# Altium footprint library Pattern No3d 20090609.PcbLib: 323 footprints (part 21 of 22)
Each footprint in its own frame and in the unit in brackets; x right, y up, seen from the top. Pads: shape width x height; smd on the part's side, far side on the other; paste and mask are expansions set on the pad; w line width, h text height; cw(c..) or ccw(c..) is an arc to the next point about the centre after c.
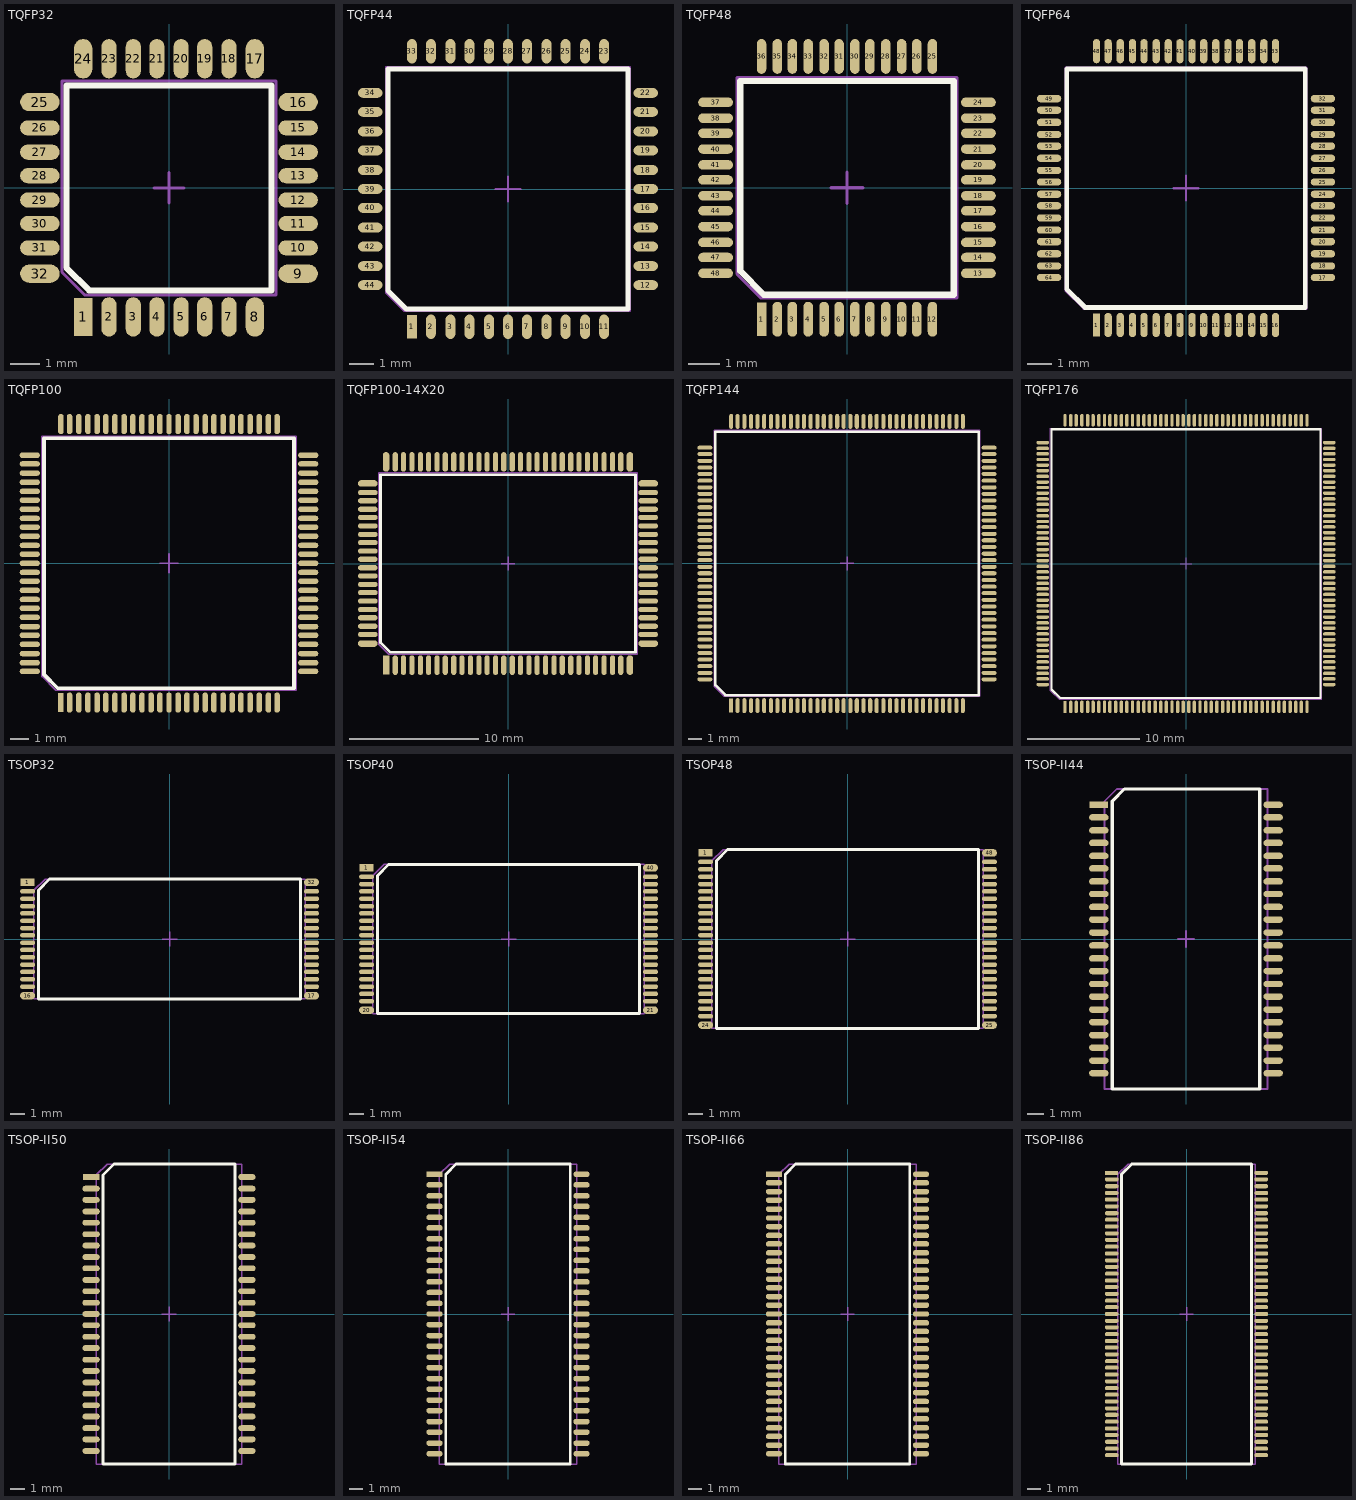
[diagram p20: the footprints below, top view; thin cyan lines are the x and y axes]

## TQFP32 [mil] "http://www.nxp.com/acrobat_download/packages/SOT358-1.pdf"
pads (32):
  rect 24x50 smd mask-1000: 1(-113,-170)
  oval 20x52 smd mask-1000: 2(-79,-170) 3(-47,-170) 4(-16,-170) 5(16,-170) 6(47,-170) 7(79,-170) 18(79,170) 19(47,170) 20(16,170) 21(-16,170) 22(-47,170) 23(-79,170)
  oval 24x52 smd mask-1000: 8(113,-170) 17(113,170) 24(-113,170)
  oval 52x24 smd mask-1000: 9(170,-113) 16(170,113) 25(-170,113) 32(-170,-113)
  oval 52x20 smd mask-1000: 10(170,-79) 11(170,-47) 12(170,-16) 13(170,16) 14(170,47) 15(170,79) 26(-170,79) 27(-170,47) 28(-170,16) 29(-170,-16) 30(-170,-47) 31(-170,-79)
Top Overlay:
  lines w8: -135,-105 -135,135 135,135 135,-135 -105,-135 -135,-105
Top Solder:
  region: -129,-141 -129,-199 -99,-199 -99,-141
  lines w24: -188,-79 -152,-79 ; -188,-47 -152,-47 ; -188,-16 -152,-16 ; -188,16 -152,16 ; -188,47 -152,47 ; -188,79 -152,79 ; -79,-188 -79,-152 ; -79,152 -79,188 ; -47,-188 -47,-152 ; -47,152 -47,188 ; -16,-188 -16,-152 ; -16,152 -16,188 ; 16,-188 16,-152 ; 16,152 16,188 ; 47,-188 47,-152 ; 47,152 47,188 ; 79,-188 79,-152 ; 79,152 79,188 ; 152,-79 188,-79 ; 152,-47 188,-47 ; 152,-16 188,-16 ; 152,16 188,16 ; 152,47 188,47 ; 152,79 188,79
  lines w30: -185,-114 -155,-114 ; -185,114 -155,114 ; -114,155 -114,185 ; 114,-185 114,-155 ; 114,155 114,185 ; 155,-114 185,-114 ; 155,114 185,114
Mechanical 1:
  lines w4: -141,-111 -141,141 141,141 141,-141 -111,-141 -141,-111
Mechanical 15:
  lines w4: -20,0 20,0 ; 0,-20 0,20

## TQFP44 [mil] "http://www.nxp.com/acrobat_download/packages/SOT376-1.pdf"
pads (44):
  rect 16x38 smd mask+4: 1(-157,-225)
  oval 16x40 smd mask+4: 2(-126,-225) 3(-94,-225) 4(-63,-225) 5(-31,-225) 6(0,-225) 7(31,-225) 8(63,-225) 9(94,-225) 10(126,-225) 11(157,-225) 23(157,225) 24(126,225) 25(94,225) 26(63,225) 27(31,225) 28(0,225) 29(-31,225) 30(-63,225) 31(-94,225) 32(-126,225) 33(-157,225)
  oval 40x16 smd mask+4: 12(225,-157) 13(225,-126) 14(225,-94) 15(225,-63) 16(225,-31) 17(225,0) 18(225,31) 19(225,63) 20(225,94) 21(225,126) 22(225,157) 34(-225,157) 35(-225,126) 36(-225,94) 37(-225,63) 38(-225,31) 39(-225,0) 40(-225,-31) 41(-225,-63) 42(-225,-94) 43(-225,-126) 44(-225,-157)
Top Overlay:
  lines w8: -196,-166 -196,196 196,196 196,-196 -166,-196 -196,-166
Mechanical 1:
  lines w4: -199,-169 -199,199 199,199 199,-199 -169,-199 -199,-169
Mechanical 15:
  lines w4: -20,0 20,0 ; 0,-20 0,20

## TQFP48 [mil] "http://www.nxp.com/acrobat_download/packages/SOT313-2.pdf"
pads (48):
  rect 12x42 smd mask-1000: 1(-108,-166)
  oval 12x44 smd mask-1000: 2(-88,-166) 3(-69,-166) 4(-49,-166) 5(-29,-166) 6(-10,-166) 7(10,-166) 8(29,-166) 9(49,-166) 10(69,-166) 11(88,-166) 12(108,-166) 25(108,166) 26(88,166) 27(69,166) 28(49,166) 29(29,166) 30(10,166) 31(-10,166) 32(-29,166) 33(-49,166) 34(-69,166) 35(-88,166) 36(-108,166)
  oval 44x12 smd mask-1000: 13(166,-108) 14(166,-88) 15(166,-69) 16(166,-49) 17(166,-29) 18(166,-10) 19(166,10) 20(166,29) 21(166,49) 22(166,69) 23(166,88) 24(166,108) 37(-166,108) 38(-166,88) 39(-166,69) 40(-166,49) 41(-166,29) 42(-166,10) 43(-166,-10) 44(-166,-29) 45(-166,-49) 46(-166,-69) 47(-166,-88) 48(-166,-108)
Top Overlay:
  lines w8: -135,-105 -135,135 135,135 135,-135 -105,-135 -135,-105
Top Solder:
  region: -101,-191 -101,-141 -117,-141 -117,-191
  lines w14: -185,-88 -147,-88 ; -185,-69 -147,-69 ; -185,-49 -147,-49 ; -185,-29 -147,-29 ; -185,-10 -147,-10 ; -185,10 -147,10 ; -185,29 -147,29 ; -185,49 -147,49 ; -185,69 -147,69 ; -185,88 -147,88 ; -88,-185 -88,-147 ; -88,147 -88,185 ; -69,-185 -69,-147 ; -69,147 -69,185 ; -49,-185 -49,-147 ; -49,147 -49,185 ; -29,-185 -29,-147 ; -29,147 -29,185 ; -10,-185 -10,-147 ; -10,147 -10,185 ; 10,-185 10,-147 ; 10,147 10,185 ; 29,-185 29,-147 ; 29,147 29,185 ; 49,-185 49,-147 ; 49,147 49,185 ; 69,-185 69,-147 ; 69,147 69,185 ; 88,-185 88,-147 ; 88,147 88,185 ; 147,-88 185,-88 ; 147,-69 185,-69 ; 147,-49 185,-49 ; 147,-29 185,-29 ; 147,-10 185,-10 ; 147,10 185,10 ; 147,29 185,29 ; 147,49 185,49 ; 147,69 185,69 ; 147,88 185,88
  lines w16: -184,-109 -148,-109 ; -184,109 -148,109 ; -109,148 -109,184 ; 109,-184 109,-148 ; 109,148 109,184 ; 148,-109 184,-109 ; 148,109 184,109
Mechanical 1:
  lines w4: -139,-109 -139,139 139,139 139,-139 -109,-139 -139,-109
Mechanical 15:
  lines w4: -20,0 20,0 ; 0,-20 0,20

## TQFP64 [mil] "http://www.nxp.com/acrobat_download/packages/SOT314-2.pdf"
pads (64):
  rect 12x38 smd mask-1000: 1(-147,-225)
  oval 12x40 smd mask-1000: 2(-128,-225) 3(-108,-225) 4(-88,-225) 5(-69,-225) 6(-49,-225) 7(-29,-225) 8(-10,-225) 9(10,-225) 10(29,-225) 11(49,-225) 12(69,-225) 13(88,-225) 14(108,-225) 15(128,-225) 16(147,-225) 33(147,225) 34(128,225) 35(108,225) 36(88,225) 37(69,225) 38(49,225) 39(29,225) 40(10,225) 41(-10,225) 42(-29,225) 43(-49,225) 44(-69,225) 45(-88,225) 46(-108,225) 47(-128,225) 48(-147,225)
  oval 40x12 smd mask-1000: 17(225,-147) 18(225,-128) 19(225,-108) 20(225,-88) 21(225,-69) 22(225,-49) 23(225,-29) 24(225,-10) 25(225,10) 26(225,29) 27(225,49) 28(225,69) 29(225,88) 30(225,108) 31(225,128) 32(225,147) 49(-225,147) 50(-225,128) 51(-225,108) 52(-225,88) 53(-225,69) 54(-225,49) 55(-225,29) 56(-225,10) 57(-225,-10) 58(-225,-29) 59(-225,-49) 60(-225,-69) 61(-225,-88) 62(-225,-108) 63(-225,-128) 64(-225,-147)
Top Overlay:
  lines w8: -196,-166 -166,-196 196,-196 196,196 -196,196 -196,-166
Top Solder:
  region: -140,-248 -140,-202 -156,-202 -156,-248
  lines w14: -242,-128 -208,-128 ; -242,-108 -208,-108 ; -242,-88 -208,-88 ; -242,-69 -208,-69 ; -242,-49 -208,-49 ; -242,-29 -208,-29 ; -242,-10 -208,-10 ; -242,10 -208,10 ; -242,29 -208,29 ; -242,49 -208,49 ; -242,69 -208,69 ; -242,88 -208,88 ; -242,108 -208,108 ; -242,128 -208,128 ; -128,-242 -128,-208 ; -128,208 -128,242 ; -108,-242 -108,-208 ; -108,208 -108,242 ; -88,-242 -88,-208 ; -88,208 -88,242 ; -69,-242 -69,-208 ; -69,208 -69,242 ; -49,-242 -49,-208 ; -49,208 -49,242 ; -29,-242 -29,-208 ; -29,208 -29,242 ; -10,-242 -10,-208 ; -10,208 -10,242 ; 10,-242 10,-208 ; 10,208 10,242 ; 29,-242 29,-208 ; 29,208 29,242 ; 49,-242 49,-208 ; 49,208 49,242 ; 69,-242 69,-208 ; 69,208 69,242 ; 88,-242 88,-208 ; 88,208 88,242 ; 108,-242 108,-208 ; 108,208 108,242 ; 128,-242 128,-208 ; 128,208 128,242 ; 208,-128 242,-128 ; 208,-108 242,-108 ; 208,-88 242,-88 ; 208,-69 242,-69 ; 208,-49 242,-49 ; 208,-29 242,-29 ; 208,-10 242,-10 ; 208,10 242,10 ; 208,29 242,29 ; 208,49 242,49 ; 208,69 242,69 ; 208,88 242,88 ; 208,108 242,108 ; 208,128 242,128
  lines w16: -241,-148 -209,-148 ; -241,148 -209,148 ; -148,209 -148,241 ; 148,-241 148,-209 ; 148,209 148,241 ; 209,-148 241,-148 ; 209,148 241,148
Mechanical 1:
  lines w4: -198,-168 -168,-198 198,-198 198,198 -198,198 -198,-168
Mechanical 15:
  lines w4: -20,0 20,0 ; 0,-20 0,20

## TQFP100 [mil] "http://www.nxp.com/acrobat_download/packages/SOT407-1.pdf"
pads (100):
  rect 12x42 smd mask-1000: 1(-236,-304)
  oval 12x44 smd mask-1000: 2(-217,-304) 3(-197,-304) 4(-177,-304) 5(-157,-304) 6(-138,-304) 7(-118,-304) 8(-98,-304) 9(-79,-304) 10(-59,-304) 11(-39,-304) 12(-20,-304) 13(0,-304) 14(20,-304) 15(39,-304) 16(59,-304) 17(79,-304) 18(98,-304) 19(118,-304) 20(138,-304) 21(157,-304) 22(177,-304) 23(197,-304) 24(217,-304) 25(236,-304) 51(236,304) 52(217,304) 53(197,304) 54(177,304) 55(157,304) 56(138,304) 57(118,304) 58(98,304) 59(79,304) 60(59,304) 61(39,304) 62(20,304) 63(0,304) 64(-20,304) 65(-39,304) 66(-59,304) 67(-79,304) 68(-98,304) 69(-118,304) 70(-138,304) 71(-157,304) 72(-177,304) 73(-197,304) 74(-217,304) 75(-236,304)
  oval 44x12 smd mask-1000: 26(304,-236) 27(304,-217) 28(304,-197) 29(304,-177) 30(304,-157) 31(304,-138) 32(304,-118) 33(304,-98) 34(304,-79) 35(304,-59) 36(304,-39) 37(304,-20) 38(304,0) 39(304,20) 40(304,39) 41(304,59) 42(304,79) 43(304,98) 44(304,118) 45(304,138) 46(304,157) 47(304,177) 48(304,197) 49(304,217) 50(304,236) 76(-304,236) 77(-304,217) 78(-304,197) 79(-304,177) 80(-304,157) 81(-304,138) 82(-304,118) 83(-304,98) 84(-304,79) 85(-304,59) 86(-304,39) 87(-304,20) 88(-304,0) 89(-304,-20) 90(-304,-39) 91(-304,-59) 92(-304,-79) 93(-304,-98) 94(-304,-118) 95(-304,-138) 96(-304,-157) 97(-304,-177) 98(-304,-197) 99(-304,-217) 100(-304,-236)
Top Overlay:
  lines w8: -273,-243 -243,-273 273,-273 273,273 -273,273 -273,-243
Top Solder:
  region: -229,-329 -229,-279 -245,-279 -245,-329
  lines w14: -323,-217 -285,-217 ; -323,-197 -285,-197 ; -323,-177 -285,-177 ; -323,-157 -285,-157 ; -323,-138 -285,-138 ; -323,-118 -285,-118 ; -323,-98 -285,-98 ; -323,-79 -285,-79 ; -323,-59 -285,-59 ; -323,-39 -285,-39 ; -323,-20 -285,-20 ; -323,0 -285,0 ; -323,20 -285,20 ; -323,39 -285,39 ; -323,59 -285,59 ; -323,79 -285,79 ; -323,98 -285,98 ; -323,118 -285,118 ; -323,138 -285,138 ; -323,157 -285,157 ; -323,177 -285,177 ; -323,197 -285,197 ; -323,217 -285,217 ; -217,-323 -217,-285 ; -217,285 -217,323 ; -197,-323 -197,-285 ; -197,285 -197,323 ; -177,-323 -177,-285 ; -177,285 -177,323 ; -157,-323 -157,-285 ; -157,285 -157,323 ; -138,-323 -138,-285 ; -138,285 -138,323 ; -118,-323 -118,-285 ; -118,285 -118,323 ; -98,-323 -98,-285 ; -98,285 -98,323 ; -79,-323 -79,-285 ; -79,285 -79,323 ; -59,-323 -59,-285 ; -59,285 -59,323 ; -39,-323 -39,-285 ; -39,285 -39,323 ; -20,-323 -20,-285 ; -20,285 -20,323 ; 0,-323 0,-285 ; 0,285 0,323 ; 20,-323 20,-285 ; 20,285 20,323 ; 39,-323 39,-285 ; 39,285 39,323 ; 59,-323 59,-285 ; 59,285 59,323 ; 79,-323 79,-285 ; 79,285 79,323 ; 98,-323 98,-285 ; 98,285 98,323 ; 118,-323 118,-285 ; 118,285 118,323 ; 138,-323 138,-285 ; 138,285 138,323 ; 157,-323 157,-285 ; 157,285 157,323 ; 177,-323 177,-285 ; 177,285 177,323 ; 197,-323 197,-285 ; 197,285 197,323 ; 217,-323 217,-285 ; 217,285 217,323 ; 285,-217 323,-217 ; 285,-197 323,-197 ; 285,-177 323,-177 ; 285,-157 323,-157 ; 285,-138 323,-138 ; 285,-118 323,-118 ; 285,-98 323,-98 ; 285,-79 323,-79 ; 285,-59 323,-59 ; 285,-39 323,-39 ; 285,-20 323,-20 ; 285,0 323,0 ; 285,20 323,20 ; 285,39 323,39 ; 285,59 323,59 ; 285,79 323,79 ; 285,98 323,98 ; 285,118 323,118 ; 285,138 323,138 ; 285,157 323,157 ; 285,177 323,177 ; 285,197 323,197 ; 285,217 323,217
  lines w16: -322,-237 -286,-237 ; -322,237 -286,237 ; -237,286 -237,322 ; 237,-322 237,-286 ; 237,286 237,322 ; 286,-237 322,-237 ; 286,237 322,237
Mechanical 1:
  lines w4: -277,-247 -247,-277 277,-277 277,277 -277,277 -277,-247
Mechanical 15:
  lines w4: -20,0 20,0 ; 0,-20 0,20

## TQFP100-14X20 [mil] "http://www.cypress.com/?docID=13993 (100-Pin TQFP)"
pads (100):
  rect 20x58 smd mask-1000: 1(-373,-311)
  oval 16x60 smd mask-1000: 2(-345,-311) 3(-320,-311) 4(-294,-311) 5(-268,-311) 6(-243,-311) 7(-217,-311) 8(-192,-311) 9(-166,-311) 10(-141,-311) 11(-115,-311) 12(-89,-311) 13(-64,-311) 14(-38,-311) 15(-13,-311) 16(13,-311) 17(38,-311) 18(64,-311) 19(89,-311) 20(115,-311) 21(141,-311) 22(166,-311) 23(192,-311) 24(217,-311) 25(243,-311) 26(268,-311) 27(294,-311) 28(320,-311) 29(345,-311) 52(345,311) 53(320,311) 54(294,311) 55(268,311) 56(243,311) 57(217,311) 58(192,311) 59(166,311) 60(141,311) 61(115,311) 62(89,311) 63(64,311) 64(38,311) 65(13,311) 66(-13,311) 67(-38,311) 68(-64,311) 69(-89,311) 70(-115,311) 71(-141,311) 72(-166,311) 73(-192,311) 74(-217,311) 75(-243,311) 76(-268,311) 77(-294,311) 78(-320,311) 79(-345,311)
  oval 20x60 smd mask-1000: 30(373,-311) 51(373,311) 80(-373,311)
  oval 60x20 smd mask-1000: 31(429,-245) 50(429,245) 81(-429,245) 100(-429,-245)
  oval 60x16 smd mask-1000: 32(429,-217) 33(429,-192) 34(429,-166) 35(429,-141) 36(429,-115) 37(429,-89) 38(429,-64) 39(429,-38) 40(429,-13) 41(429,13) 42(429,38) 43(429,64) 44(429,89) 45(429,115) 46(429,141) 47(429,166) 48(429,192) 49(429,217) 82(-429,217) 83(-429,192) 84(-429,166) 85(-429,141) 86(-429,115) 87(-429,89) 88(-429,64) 89(-429,38) 90(-429,13) 91(-429,-13) 92(-429,-38) 93(-429,-64) 94(-429,-89) 95(-429,-115) 96(-429,-141) 97(-429,-166) 98(-429,-192) 99(-429,-217)
Top Overlay:
  lines w8: -390,-242 -360,-272 390,-272 390,272 -390,272 -390,-242
Top Solder:
  region: -362,-344 -362,-278 -386,-278 -386,-344
  lines w18: -454,-217 -404,-217 ; -454,-192 -404,-192 ; -454,-166 -404,-166 ; -454,-141 -404,-141 ; -454,-115 -404,-115 ; -454,-89 -404,-89 ; -454,-64 -404,-64 ; -454,-38 -404,-38 ; -454,-13 -404,-13 ; -454,13 -404,13 ; -454,38 -404,38 ; -454,64 -404,64 ; -454,89 -404,89 ; -454,115 -404,115 ; -454,141 -404,141 ; -454,166 -404,166 ; -454,192 -404,192 ; -454,217 -404,217 ; -345,-336 -345,-286 ; -345,286 -345,336 ; -320,-336 -320,-286 ; -320,286 -320,336 ; -294,-336 -294,-286 ; -294,286 -294,336 ; -268,-336 -268,-286 ; -268,286 -268,336 ; -243,-336 -243,-286 ; -243,286 -243,336 ; -217,-336 -217,-286 ; -217,286 -217,336 ; -192,-336 -192,-286 ; -192,286 -192,336 ; -166,-336 -166,-286 ; -166,286 -166,336 ; -141,-336 -141,-286 ; -141,286 -141,336 ; -115,-336 -115,-286 ; -115,286 -115,336 ; -89,-336 -89,-286 ; -89,286 -89,336 ; -64,-336 -64,-286 ; -64,286 -64,336 ; -38,-336 -38,-286 ; -38,286 -38,336 ; -13,-336 -13,-286 ; -13,286 -13,336 ; 13,-336 13,-286 ; 13,286 13,336 ; 38,-336 38,-286 ; 38,286 38,336 ; 64,-336 64,-286 ; 64,286 64,336 ; 89,-336 89,-286 ; 89,286 89,336 ; 115,-336 115,-286 ; 115,286 115,336 ; 141,-336 141,-286 ; 141,286 141,336 ; 166,-336 166,-286 ; 166,286 166,336 ; 192,-336 192,-286 ; 192,286 192,336 ; 217,-336 217,-286 ; 217,286 217,336 ; 243,-336 243,-286 ; 243,286 243,336 ; 268,-336 268,-286 ; 268,286 268,336 ; 294,-336 294,-286 ; 294,286 294,336 ; 320,-336 320,-286 ; 320,286 320,336 ; 345,-336 345,-286 ; 345,286 345,336 ; 404,-217 454,-217 ; 404,-192 454,-192 ; 404,-166 454,-166 ; 404,-141 454,-141 ; 404,-115 454,-115 ; 404,-89 454,-89 ; 404,-64 454,-64 ; 404,-38 454,-38 ; 404,-13 454,-13 ; 404,13 454,13 ; 404,38 454,38 ; 404,64 454,64 ; 404,89 454,89 ; 404,115 454,115 ; 404,141 454,141 ; 404,166 454,166 ; 404,192 454,192 ; 404,217 454,217
  lines w24: -451,-246 -407,-246 ; -451,246 -407,246 ; -374,289 -374,333 ; 374,-333 374,-289 ; 374,289 374,333 ; 407,-246 451,-246 ; 407,246 451,246
Mechanical 1:
  lines w4: -395,-247 -365,-277 395,-277 395,277 -395,277 -395,-247
Mechanical 15:
  lines w4: -20,0 20,0 ; 0,-20 0,20

## TQFP144 [mil] "http://www.nxp.com/acrobat_download/packages/SOT486-1.pdf"
pads (144):
  rect 12x42 smd mask-1000: 1(-344,-422)
  oval 12x44 smd mask-1000: 2(-325,-422) 3(-305,-422) 4(-285,-422) 5(-266,-422) 6(-246,-422) 7(-226,-422) 8(-207,-422) 9(-187,-422) 10(-167,-422) 11(-147,-422) 12(-128,-422) 13(-108,-422) 14(-88,-422) 15(-69,-422) 16(-49,-422) 17(-29,-422) 18(-10,-422) 19(10,-422) 20(29,-422) 21(49,-422) 22(69,-422) 23(88,-422) 24(108,-422) 25(128,-422) 26(147,-422) 27(167,-422) 28(187,-422) 29(207,-422) 30(226,-422) 31(246,-422) 32(266,-422) 33(285,-422) 34(305,-422) 35(325,-422) 36(344,-422) 73(344,422) 74(325,422) 75(305,422) 76(285,422) 77(266,422) 78(246,422) 79(226,422) 80(207,422) 81(187,422) 82(167,422) 83(147,422) 84(128,422) 85(108,422) 86(88,422) 87(69,422) 88(49,422) 89(29,422) 90(10,422) 91(-10,422) 92(-29,422) 93(-49,422) 94(-69,422) 95(-88,422) 96(-108,422) 97(-128,422) 98(-147,422) 99(-167,422) 100(-187,422) 101(-207,422) 102(-226,422) 103(-246,422) 104(-266,422) 105(-285,422) 106(-305,422) 107(-325,422) 108(-344,422)
  oval 44x12 smd mask-1000: 37(422,-344) 38(422,-325) 39(422,-305) 40(422,-285) 41(422,-266) 42(422,-246) 43(422,-226) 44(422,-207) 45(422,-187) 46(422,-167) 47(422,-147) 48(422,-128) 49(422,-108) 50(422,-88) 51(422,-69) 52(422,-49) 53(422,-29) 54(422,-10) 55(422,10) 56(422,29) 57(422,49) 58(422,69) 59(422,88) 60(422,108) 61(422,128) 62(422,147) 63(422,167) 64(422,187) 65(422,207) 66(422,226) 67(422,246) 68(422,266) 69(422,285) 70(422,305) 71(422,325) 72(422,344) 109(-422,344) 110(-422,325) 111(-422,305) 112(-422,285) 113(-422,266) 114(-422,246) 115(-422,226) 116(-422,207) 117(-422,187) 118(-422,167) 119(-422,147) 120(-422,128) 121(-422,108) 122(-422,88) 123(-422,69) 124(-422,49) 125(-422,29) 126(-422,10) 127(-422,-10) 128(-422,-29) 129(-422,-49) 130(-422,-69) 131(-422,-88) 132(-422,-108) 133(-422,-128) 134(-422,-147) 135(-422,-167) 136(-422,-187) 137(-422,-207) 138(-422,-226) 139(-422,-246) 140(-422,-266) 141(-422,-285) 142(-422,-305) 143(-422,-325) 144(-422,-344)
Top Overlay:
  lines w8: -391,-361 -361,-391 391,-391 391,391 -391,391 -391,-361
Top Solder:
  region: -337,-447 -337,-397 -353,-397 -353,-447
  lines w14: -441,-325 -403,-325 ; -441,-305 -403,-305 ; -441,-285 -403,-285 ; -441,-266 -403,-266 ; -441,-246 -403,-246 ; -441,-226 -403,-226 ; -441,-207 -403,-207 ; -441,-187 -403,-187 ; -441,-167 -403,-167 ; -441,-147 -403,-147 ; -441,-128 -403,-128 ; -441,-108 -403,-108 ; -441,-88 -403,-88 ; -441,-69 -403,-69 ; -441,-49 -403,-49 ; -441,-29 -403,-29 ; -441,-10 -403,-10 ; -441,10 -403,10 ; -441,29 -403,29 ; -441,49 -403,49 ; -441,69 -403,69 ; -441,88 -403,88 ; -441,108 -403,108 ; -441,128 -403,128 ; -441,147 -403,147 ; -441,167 -403,167 ; -441,187 -403,187 ; -441,207 -403,207 ; -441,226 -403,226 ; -441,246 -403,246 ; -441,266 -403,266 ; -441,285 -403,285 ; -441,305 -403,305 ; -441,325 -403,325 ; -325,-441 -325,-403 ; -325,403 -325,441 ; -305,-441 -305,-403 ; -305,403 -305,441 ; -285,-441 -285,-403 ; -285,403 -285,441 ; -266,-441 -266,-403 ; -266,403 -266,441 ; -246,-441 -246,-403 ; -246,403 -246,441 ; -226,-441 -226,-403 ; -226,403 -226,441 ; -207,-441 -207,-403 ; -207,403 -207,441 ; -187,-441 -187,-403 ; -187,403 -187,441 ; -167,-441 -167,-403 ; -167,403 -167,441 ; -147,-441 -147,-403 ; -147,403 -147,441 ; -128,-441 -128,-403 ; -128,403 -128,441 ; -108,-441 -108,-403 ; -108,403 -108,441 ; -88,-441 -88,-403 ; -88,403 -88,441 ; -69,-441 -69,-403 ; -69,403 -69,441 ; -49,-441 -49,-403 ; -49,403 -49,441 ; -29,-441 -29,-403 ; -29,403 -29,441 ; -10,-441 -10,-403 ; -10,403 -10,441 ; 10,-441 10,-403 ; 10,403 10,441 ; 29,-441 29,-403 ; 29,403 29,441 ; 49,-441 49,-403 ; 49,403 49,441 ; 69,-441 69,-403 ; 69,403 69,441 ; 88,-441 88,-403 ; 88,403 88,441 ; 108,-441 108,-403 ; 108,403 108,441 ; 128,-441 128,-403 ; 128,403 128,441 ; 147,-441 147,-403 ; 147,403 147,441 ; 167,-441 167,-403 ; 167,403 167,441 ; 187,-441 187,-403 ; 187,403 187,441 ; 207,-441 207,-403 ; 207,403 207,441 ; 226,-441 226,-403 ; 226,403 226,441 ; 246,-441 246,-403 ; 246,403 246,441 ; 266,-441 266,-403 ; 266,403 266,441 ; 285,-441 285,-403 ; 285,403 285,441 ; 305,-441 305,-403 ; 305,403 305,441 ; 325,-441 325,-403 ; 325,403 325,441 ; 403,-325 441,-325 ; 403,-305 441,-305 ; 403,-285 441,-285 ; 403,-266 441,-266 ; 403,-246 441,-246 ; 403,-226 441,-226 ; 403,-207 441,-207 ; 403,-187 441,-187 ; 403,-167 441,-167 ; 403,-147 441,-147 ; 403,-128 441,-128 ; 403,-108 441,-108 ; 403,-88 441,-88 ; 403,-69 441,-69 ; 403,-49 441,-49 ; 403,-29 441,-29 ; 403,-10 441,-10 ; 403,10 441,10 ; 403,29 441,29 ; 403,49 441,49 ; 403,69 441,69 ; 403,88 441,88 ; 403,108 441,108 ; 403,128 441,128 ; 403,147 441,147 ; 403,167 441,167 ; 403,187 441,187 ; 403,207 441,207 ; 403,226 441,226 ; 403,246 441,246 ; 403,266 441,266 ; 403,285 441,285 ; 403,305 441,305 ; 403,325 441,325
  lines w16: -440,-345 -404,-345 ; -440,345 -404,345 ; -345,404 -345,440 ; 345,-440 345,-404 ; 345,404 345,440 ; 404,-345 440,-345 ; 404,345 440,345
Mechanical 1:
  lines w4: -395,-365 -365,-395 395,-395 395,395 -395,395 -395,-365
Mechanical 15:
  lines w4: -20,0 20,0 ; 0,-20 0,20

## TQFP176 [mil] "http://www.nxp.com/acrobat_download/packages/SOT506-1.pdf"
pads (176):
  rect 12x42 smd mask-1000: 1(-423,-501)
  oval 12x44 smd mask-1000: 2(-403,-501) 3(-384,-501) 4(-364,-501) 5(-344,-501) 6(-325,-501) 7(-305,-501) 8(-285,-501) 9(-266,-501) 10(-246,-501) 11(-226,-501) 12(-207,-501) 13(-187,-501) 14(-167,-501) 15(-147,-501) 16(-128,-501) 17(-108,-501) 18(-88,-501) 19(-69,-501) 20(-49,-501) 21(-29,-501) 22(-10,-501) 23(10,-501) 24(29,-501) 25(49,-501) 26(69,-501) 27(88,-501) 28(108,-501) 29(128,-501) 30(147,-501) 31(167,-501) 32(187,-501) 33(207,-501) 34(226,-501) 35(246,-501) 36(266,-501) 37(285,-501) 38(305,-501) 39(325,-501) 40(344,-501) 41(364,-501) 42(384,-501) 43(403,-501) 44(423,-501) 89(423,501) 90(403,501) 91(384,501) 92(364,501) 93(344,501) 94(325,501) 95(305,501) 96(285,501) 97(266,501) 98(246,501) 99(226,501) 100(207,501) 101(187,501) 102(167,501) 103(147,501) 104(128,501) 105(108,501) 106(88,501) 107(69,501) 108(49,501) 109(29,501) 110(10,501) 111(-10,501) 112(-29,501) 113(-49,501) 114(-69,501) 115(-88,501) 116(-108,501) 117(-128,501) 118(-147,501) 119(-167,501) 120(-187,501) 121(-207,501) 122(-226,501) 123(-246,501) 124(-266,501) 125(-285,501) 126(-305,501) 127(-325,501) 128(-344,501) 129(-364,501) 130(-384,501) 131(-403,501) 132(-423,501)
  oval 44x12 smd mask-1000: 45(501,-423) 46(501,-403) 47(501,-384) 48(501,-364) 49(501,-344) 50(501,-325) 51(501,-305) 52(501,-285) 53(501,-266) 54(501,-246) 55(501,-226) 56(501,-207) 57(501,-187) 58(501,-167) 59(501,-147) 60(501,-128) 61(501,-108) 62(501,-88) 63(501,-69) 64(501,-49) 65(501,-29) 66(501,-10) 67(501,10) 68(501,29) 69(501,49) 70(501,69) 71(501,88) 72(501,108) 73(501,128) 74(501,147) 75(501,167) 76(501,187) 77(501,207) 78(501,226) 79(501,246) 80(501,266) 81(501,285) 82(501,305) 83(501,325) 84(501,344) 85(501,364) 86(501,384) 87(501,403) 88(501,423) 133(-501,423) 134(-501,403) 135(-501,384) 136(-501,364) 137(-501,344) 138(-501,325) 139(-501,305) 140(-501,285) 141(-501,266) 142(-501,246) 143(-501,226) 144(-501,207) 145(-501,187) 146(-501,167) 147(-501,147) 148(-501,128) 149(-501,108) 150(-501,88) 151(-501,69) 152(-501,49) 153(-501,29) 154(-501,10) 155(-501,-10) 156(-501,-29) 157(-501,-49) 158(-501,-69) 159(-501,-88) 160(-501,-108) 161(-501,-128) 162(-501,-147) 163(-501,-167) 164(-501,-187) 165(-501,-207) 166(-501,-226) 167(-501,-246) 168(-501,-266) 169(-501,-285) 170(-501,-305) 171(-501,-325) 172(-501,-344) 173(-501,-364) 174(-501,-384) 175(-501,-403) 176(-501,-423)
Top Overlay:
  lines w8: -470,-440 -440,-470 470,-470 470,470 -470,470 -470,-440
Top Solder:
  drawing of 176 lines, arcs and shapes, not listed
Mechanical 1:
  lines w4: -474,-444 -444,-474 474,-474 474,474 -474,474 -474,-444
Mechanical 15:
  lines w4: -20,0 20,0 ; 0,-20 0,20

## TSOP32 [mil] "http://www.necel.com/nesdis/image/s32gz-50-kjh-4.pdf"
pads (32):
  rect 38x20 smd mask-1000: 1(-381,152)
  oval 40x12 smd mask-1000: 2(-381,128) 3(-381,108) 4(-381,88) 5(-381,69) 6(-381,49) 7(-381,29) 8(-381,10) 9(-381,-10) 10(-381,-29) 11(-381,-49) 12(-381,-69) 13(-381,-88) 14(-381,-108) 15(-381,-128) 18(381,-128) 19(381,-108) 20(381,-88) 21(381,-69) 22(381,-49) 23(381,-29) 24(381,-10) 25(381,10) 26(381,29) 27(381,49) 28(381,69) 29(381,88) 30(381,108) 31(381,128)
  oval 40x20 smd mask-1000: 16(-381,-152) 17(381,-152) 32(381,152)
Top Overlay:
  lines w8: -352,-161 -352,131 -322,161 352,161 352,-161 -352,-161
Top Solder:
  region: -404,141 -358,141 -358,165 -404,165
  lines w14: -398,-128 -364,-128 ; -398,-108 -364,-108 ; -398,-88 -364,-88 ; -398,-69 -364,-69 ; -398,-49 -364,-49 ; -398,-29 -364,-29 ; -398,-10 -364,-10 ; -398,10 -364,10 ; -398,29 -364,29 ; -398,49 -364,49 ; -398,69 -364,69 ; -398,88 -364,88 ; -398,108 -364,108 ; -398,128 -364,128 ; 364,-128 398,-128 ; 364,-108 398,-108 ; 364,-88 398,-88 ; 364,-69 398,-69 ; 364,-49 398,-49 ; 364,-29 398,-29 ; 364,-10 398,-10 ; 364,10 398,10 ; 364,29 398,29 ; 364,49 398,49 ; 364,69 398,69 ; 364,88 398,88 ; 364,108 398,108 ; 364,128 398,128
  lines w24: -393,-153 -369,-153 ; 369,-153 393,-153 ; 369,153 393,153
Mechanical 1:
  lines w4: -364,-161 -364,131 -334,161 364,161 364,-161 -364,-161
Mechanical 15:
  lines w4: -20,0 20,0 ; 0,-20 0,20

## TSOP40 [mil] "http://www.necel.com/nesdis/image/s40gz-50-ljh-3.pdf"
pads (40):
  rect 38x20 smd mask-1000: 1(-381,191)
  oval 40x12 smd mask-1000: 2(-381,167) 3(-381,147) 4(-381,128) 5(-381,108) 6(-381,88) 7(-381,69) 8(-381,49) 9(-381,29) 10(-381,10) 11(-381,-10) 12(-381,-29) 13(-381,-49) 14(-381,-69) 15(-381,-88) 16(-381,-108) 17(-381,-128) 18(-381,-147) 19(-381,-167) 22(381,-167) 23(381,-147) 24(381,-128) 25(381,-108) 26(381,-88) 27(381,-69) 28(381,-49) 29(381,-29) 30(381,-10) 31(381,10) 32(381,29) 33(381,49) 34(381,69) 35(381,88) 36(381,108) 37(381,128) 38(381,147) 39(381,167)
  oval 40x20 smd mask-1000: 20(-381,-191) 21(381,-191) 40(381,191)
Top Overlay:
  lines w8: -352,-200 -352,170 -322,200 352,200 352,-200 -352,-200
Top Solder:
  region: -404,180 -358,180 -358,204 -404,204
  lines w14: -398,-167 -364,-167 ; -398,-147 -364,-147 ; -398,-128 -364,-128 ; -398,-108 -364,-108 ; -398,-88 -364,-88 ; -398,-69 -364,-69 ; -398,-49 -364,-49 ; -398,-29 -364,-29 ; -398,-10 -364,-10 ; -398,10 -364,10 ; -398,29 -364,29 ; -398,49 -364,49 ; -398,69 -364,69 ; -398,88 -364,88 ; -398,108 -364,108 ; -398,128 -364,128 ; -398,147 -364,147 ; -398,167 -364,167 ; 364,-167 398,-167 ; 364,-147 398,-147 ; 364,-128 398,-128 ; 364,-108 398,-108 ; 364,-88 398,-88 ; 364,-69 398,-69 ; 364,-49 398,-49 ; 364,-29 398,-29 ; 364,-10 398,-10 ; 364,10 398,10 ; 364,29 398,29 ; 364,49 398,49 ; 364,69 398,69 ; 364,88 398,88 ; 364,108 398,108 ; 364,128 398,128 ; 364,147 398,147 ; 364,167 398,167
  lines w24: -393,-192 -369,-192 ; 369,-192 393,-192 ; 369,192 393,192
Mechanical 1:
  lines w4: -364,-200 -364,170 -334,200 364,200 364,-200 -364,-200
Mechanical 15:
  lines w4: -20,0 20,0 ; 0,-20 0,20

## TSOP48 [mil] "http://www.xilinx.com/support/documentation/package_specs/vo48.pdf"
pads (48):
  rect 38x20 smd mask-1000: 1(-381,231)
  oval 40x12 smd mask-1000: 2(-381,207) 3(-381,187) 4(-381,167) 5(-381,147) 6(-381,128) 7(-381,108) 8(-381,88) 9(-381,69) 10(-381,49) 11(-381,29) 12(-381,10) 13(-381,-10) 14(-381,-29) 15(-381,-49) 16(-381,-69) 17(-381,-88) 18(-381,-108) 19(-381,-128) 20(-381,-147) 21(-381,-167) 22(-381,-187) 23(-381,-207) 26(381,-207) 27(381,-187) 28(381,-167) 29(381,-147) 30(381,-128) 31(381,-108) 32(381,-88) 33(381,-69) 34(381,-49) 35(381,-29) 36(381,-10) 37(381,10) 38(381,29) 39(381,49) 40(381,69) 41(381,88) 42(381,108) 43(381,128) 44(381,147) 45(381,167) 46(381,187) 47(381,207)
  oval 40x20 smd mask-1000: 24(-381,-231) 25(381,-231) 48(381,231)
Top Overlay:
  lines w8: -352,-240 -352,210 -322,240 352,240 352,-240 -352,-240
Top Solder:
  region: -404,220 -358,220 -358,244 -404,244
  lines w14: -398,-207 -364,-207 ; -398,-187 -364,-187 ; -398,-167 -364,-167 ; -398,-147 -364,-147 ; -398,-128 -364,-128 ; -398,-108 -364,-108 ; -398,-88 -364,-88 ; -398,-69 -364,-69 ; -398,-49 -364,-49 ; -398,-29 -364,-29 ; -398,-10 -364,-10 ; -398,10 -364,10 ; -398,29 -364,29 ; -398,49 -364,49 ; -398,69 -364,69 ; -398,88 -364,88 ; -398,108 -364,108 ; -398,128 -364,128 ; -398,147 -364,147 ; -398,167 -364,167 ; -398,187 -364,187 ; -398,207 -364,207 ; 364,-207 398,-207 ; 364,-187 398,-187 ; 364,-167 398,-167 ; 364,-147 398,-147 ; 364,-128 398,-128 ; 364,-108 398,-108 ; 364,-88 398,-88 ; 364,-69 398,-69 ; 364,-49 398,-49 ; 364,-29 398,-29 ; 364,-10 398,-10 ; 364,10 398,10 ; 364,29 398,29 ; 364,49 398,49 ; 364,69 398,69 ; 364,88 398,88 ; 364,108 398,108 ; 364,128 398,128 ; 364,147 398,147 ; 364,167 398,167 ; 364,187 398,187 ; 364,207 398,207
  lines w24: -393,-232 -369,-232 ; 369,-232 393,-232 ; 369,232 393,232
Mechanical 1:
  lines w4: -364,-240 -364,210 -334,240 364,240 364,-240 -364,-240
Mechanical 15:
  lines w4: -20,0 20,0 ; 0,-20 0,20

## TSOP-II44 [mil] "http://www.samsung.com/global/system/business/semiconductor/package/2007/6/11/Memory/LeadframeType/TSOP2/44_TSOP2_400BF/44_TSOP2_400BF.pdf"
pads (44):
  rect 46x16 smd mask+4: 1(-215,331)
  oval 48x16 smd mask+4: 2(-215,300) 3(-215,268) 4(-215,237) 5(-215,205) 6(-215,174) 7(-215,142) 8(-215,111) 9(-215,79) 10(-215,48) 11(-215,16) 12(-215,-16) 13(-215,-48) 14(-215,-79) 15(-215,-111) 16(-215,-142) 17(-215,-174) 18(-215,-205) 19(-215,-237) 20(-215,-268) 21(-215,-300) 22(-215,-331) 23(215,-331) 24(215,-300) 25(215,-268) 26(215,-237) 27(215,-205) 28(215,-174) 29(215,-142) 30(215,-111) 31(215,-79) 32(215,-48) 33(215,-16) 34(215,16) 35(215,48) 36(215,79) 37(215,111) 38(215,142) 39(215,174) 40(215,205) 41(215,237) 42(215,268) 43(215,300) 44(215,331)
Top Overlay:
  lines w8: -182,-370 182,-370 182,370 -152,370 -182,340 -182,-370
Mechanical 1:
  lines w4: -201,-370 201,-370 201,370 -171,370 -201,340 -201,-370
Mechanical 15:
  lines w4: -20,0 20,0 ; 0,-20 0,20

## TSOP-II50 [mil] "http://www.samsung.com/global/system/business/semiconductor/package/2007/6/11/Memory/LeadframeType/TSOP2/50_TSOP2_400DF/50_TSOP2_400DF.pdf"
pads (50):
  rect 46x16 smd mask+4: 1(-215,378)
  oval 48x16 smd mask+4: 2(-215,346) 3(-215,315) 4(-215,283) 5(-215,252) 6(-215,220) 7(-215,189) 8(-215,157) 9(-215,126) 10(-215,94) 11(-215,63) 12(-215,31) 13(-215,0) 14(-215,-31) 15(-215,-63) 16(-215,-94) 17(-215,-126) 18(-215,-157) 19(-215,-189) 20(-215,-220) 21(-215,-252) 22(-215,-283) 23(-215,-315) 24(-215,-346) 25(-215,-378) 26(215,-378) 27(215,-346) 28(215,-315) 29(215,-283) 30(215,-252) 31(215,-220) 32(215,-189) 33(215,-157) 34(215,-126) 35(215,-94) 36(215,-63) 37(215,-31) 38(215,0) 39(215,31) 40(215,63) 41(215,94) 42(215,126) 43(215,157) 44(215,189) 45(215,220) 46(215,252) 47(215,283) 48(215,315) 49(215,346) 50(215,378)
Top Overlay:
  lines w8: -182,-414 -182,384 -152,414 182,414 182,-414 -182,-414
Mechanical 1:
  lines w4: -201,-414 -201,384 -171,414 201,414 201,-414 -201,-414
Mechanical 15:
  lines w4: -20,0 20,0 ; 0,-20 0,20

## TSOP-II54 [mil] "http://www.samsung.com/global/system/business/semiconductor/package/2007/6/11/Memory/LeadframeType/TSOP2/54_TSOP2_400CF/54_TSOP2_400CF.pdf"
pads (54):
  rect 46x16 smd mask+4: 1(-215,409)
  oval 48x16 smd mask+4: 2(-215,378) 3(-215,346) 4(-215,315) 5(-215,283) 6(-215,252) 7(-215,220) 8(-215,189) 9(-215,157) 10(-215,126) 11(-215,94) 12(-215,63) 13(-215,31) 14(-215,0) 15(-215,-31) 16(-215,-63) 17(-215,-94) 18(-215,-126) 19(-215,-157) 20(-215,-189) 21(-215,-220) 22(-215,-252) 23(-215,-283) 24(-215,-315) 25(-215,-346) 26(-215,-378) 27(-215,-409) 28(215,-409) 29(215,-378) 30(215,-346) 31(215,-315) 32(215,-283) 33(215,-252) 34(215,-220) 35(215,-189) 36(215,-157) 37(215,-126) 38(215,-94) 39(215,-63) 40(215,-31) 41(215,0) 42(215,31) 43(215,63) 44(215,94) 45(215,126) 46(215,157) 47(215,189) 48(215,220) 49(215,252) 50(215,283) 51(215,315) 52(215,346) 53(215,378) 54(215,409)
Top Overlay:
  lines w8: -182,-439 -182,409 -152,439 182,439 182,-439 -182,-439
Mechanical 1:
  lines w4: -201,-439 -201,409 -171,439 201,439 201,-439 -201,-439
Mechanical 15:
  lines w4: -20,0 20,0 ; 0,-20 0,20

## TSOP-II66 [mil] "http://www.samsung.com/global/system/business/semiconductor/package/2007/6/11/Memory/LeadframeType/TSOP2/66_TSOP2_400F/66_TSOP2_400F.pdf"
pads (66):
  rect 46x16 smd mask-1000: 1(-215,409)
  oval 48x16 smd mask-1000: 2(-215,384) 3(-215,358) 4(-215,333) 5(-215,307) 6(-215,281) 7(-215,256) 8(-215,230) 9(-215,205) 10(-215,179) 11(-215,154) 12(-215,128) 13(-215,102) 14(-215,77) 15(-215,51) 16(-215,26) 17(-215,0) 18(-215,-26) 19(-215,-51) 20(-215,-77) 21(-215,-102) 22(-215,-128) 23(-215,-154) 24(-215,-179) 25(-215,-205) 26(-215,-230) 27(-215,-256) 28(-215,-281) 29(-215,-307) 30(-215,-333) 31(-215,-358) 32(-215,-384) 33(-215,-409) 34(215,-409) 35(215,-384) 36(215,-358) 37(215,-333) 38(215,-307) 39(215,-281) 40(215,-256) 41(215,-230) 42(215,-205) 43(215,-179) 44(215,-154) 45(215,-128) 46(215,-102) 47(215,-77) 48(215,-51) 49(215,-26) 50(215,0) 51(215,26) 52(215,51) 53(215,77) 54(215,102) 55(215,128) 56(215,154) 57(215,179) 58(215,205) 59(215,230) 60(215,256) 61(215,281) 62(215,307) 63(215,333) 64(215,358) 65(215,384) 66(215,409)
Top Overlay:
  lines w8: -182,-439 182,-439 182,439 -152,439 -182,409 -182,-439
Top Solder:
  region: -242,400 -188,400 -188,420 -242,420
  lines w18: -234,-384 -196,-384 ; -234,-358 -196,-358 ; -234,-333 -196,-333 ; -234,-307 -196,-307 ; -234,-281 -196,-281 ; -234,-256 -196,-256 ; -234,-230 -196,-230 ; -234,-205 -196,-205 ; -234,-179 -196,-179 ; -234,-154 -196,-154 ; -234,-128 -196,-128 ; -234,-102 -196,-102 ; -234,-77 -196,-77 ; -234,-51 -196,-51 ; -234,-26 -196,-26 ; -234,0 -196,0 ; -234,26 -196,26 ; -234,51 -196,51 ; -234,77 -196,77 ; -234,102 -196,102 ; -234,128 -196,128 ; -234,154 -196,154 ; -234,179 -196,179 ; -234,205 -196,205 ; -234,230 -196,230 ; -234,256 -196,256 ; -234,281 -196,281 ; -234,307 -196,307 ; -234,333 -196,333 ; -234,358 -196,358 ; -234,384 -196,384 ; 196,-384 234,-384 ; 196,-358 234,-358 ; 196,-333 234,-333 ; 196,-307 234,-307 ; 196,-281 234,-281 ; 196,-256 234,-256 ; 196,-230 234,-230 ; 196,-205 234,-205 ; 196,-179 234,-179 ; 196,-154 234,-154 ; 196,-128 234,-128 ; 196,-102 234,-102 ; 196,-77 234,-77 ; 196,-51 234,-51 ; 196,-26 234,-26 ; 196,0 234,0 ; 196,26 234,26 ; 196,51 234,51 ; 196,77 234,77 ; 196,102 234,102 ; 196,128 234,128 ; 196,154 234,154 ; 196,179 234,179 ; 196,205 234,205 ; 196,230 234,230 ; 196,256 234,256 ; 196,281 234,281 ; 196,307 234,307 ; 196,333 234,333 ; 196,358 234,358 ; 196,384 234,384
  lines w20: -233,-410 -197,-410 ; 197,-410 233,-410 ; 197,410 233,410
Mechanical 1:
  lines w4: -201,-439 201,-439 201,439 -171,439 -201,409 -201,-439
Mechanical 15:
  lines w4: -20,0 20,0 ; 0,-20 0,20

## TSOP-II86 [mil] "http://www.samsung.com/global/system/business/semiconductor/package/2007/6/11/Memory/LeadframeType/TSOP2/86_TSOP2_400F/86_TSOP2_400F.pdf"
pads (86):
  rect 38x12 smd mask-1000: 1(-219,413)
  oval 40x12 smd mask-1000: 2(-219,394) 3(-219,374) 4(-219,354) 5(-219,335) 6(-219,315) 7(-219,295) 8(-219,276) 9(-219,256) 10(-219,236) 11(-219,217) 12(-219,197) 13(-219,177) 14(-219,157) 15(-219,138) 16(-219,118) 17(-219,98) 18(-219,79) 19(-219,59) 20(-219,39) 21(-219,20) 22(-219,0) 23(-219,-20) 24(-219,-39) 25(-219,-59) 26(-219,-79) 27(-219,-98) 28(-219,-118) 29(-219,-138) 30(-219,-157) 31(-219,-177) 32(-219,-197) 33(-219,-217) 34(-219,-236) 35(-219,-256) 36(-219,-276) 37(-219,-295) 38(-219,-315) 39(-219,-335) 40(-219,-354) 41(-219,-374) 42(-219,-394) 43(-219,-413) 44(219,-413) 45(219,-394) 46(219,-374) 47(219,-354) 48(219,-335) 49(219,-315) 50(219,-295) 51(219,-276) 52(219,-256) 53(219,-236) 54(219,-217) 55(219,-197) 56(219,-177) 57(219,-157) 58(219,-138) 59(219,-118) 60(219,-98) 61(219,-79) 62(219,-59) 63(219,-39) 64(219,-20) 65(219,0) 66(219,20) 67(219,39) 68(219,59) 69(219,79) 70(219,98) 71(219,118) 72(219,138) 73(219,157) 74(219,177) 75(219,197) 76(219,217) 77(219,236) 78(219,256) 79(219,276) 80(219,295) 81(219,315) 82(219,335) 83(219,354) 84(219,374) 85(219,394) 86(219,413)
Top Overlay:
  lines w8: -190,-439 190,-439 190,439 -160,439 -190,409 -190,-439
Top Solder:
  region: -242,406 -196,406 -196,422 -242,422
  lines w14: -236,-394 -202,-394 ; -236,-374 -202,-374 ; -236,-354 -202,-354 ; -236,-335 -202,-335 ; -236,-315 -202,-315 ; -236,-295 -202,-295 ; -236,-276 -202,-276 ; -236,-256 -202,-256 ; -236,-236 -202,-236 ; -236,-217 -202,-217 ; -236,-197 -202,-197 ; -236,-177 -202,-177 ; -236,-157 -202,-157 ; -236,-138 -202,-138 ; -236,-118 -202,-118 ; -236,-98 -202,-98 ; -236,-79 -202,-79 ; -236,-59 -202,-59 ; -236,-39 -202,-39 ; -236,-20 -202,-20 ; -236,0 -202,0 ; -236,20 -202,20 ; -236,39 -202,39 ; -236,59 -202,59 ; -236,79 -202,79 ; -236,98 -202,98 ; -236,118 -202,118 ; -236,138 -202,138 ; -236,157 -202,157 ; -236,177 -202,177 ; -236,197 -202,197 ; -236,217 -202,217 ; -236,236 -202,236 ; -236,256 -202,256 ; -236,276 -202,276 ; -236,295 -202,295 ; -236,315 -202,315 ; -236,335 -202,335 ; -236,354 -202,354 ; -236,374 -202,374 ; -236,394 -202,394 ; 202,-394 236,-394 ; 202,-374 236,-374 ; 202,-354 236,-354 ; 202,-335 236,-335 ; 202,-315 236,-315 ; 202,-295 236,-295 ; 202,-276 236,-276 ; 202,-256 236,-256 ; 202,-236 236,-236 ; 202,-217 236,-217 ; 202,-197 236,-197 ; 202,-177 236,-177 ; 202,-157 236,-157 ; 202,-138 236,-138 ; 202,-118 236,-118 ; 202,-98 236,-98 ; 202,-79 236,-79 ; 202,-59 236,-59 ; 202,-39 236,-39 ; 202,-20 236,-20 ; 202,0 236,0 ; 202,20 236,20 ; 202,39 236,39 ; 202,59 236,59 ; 202,79 236,79 ; 202,98 236,98 ; 202,118 236,118 ; 202,138 236,138 ; 202,157 236,157 ; 202,177 236,177 ; 202,197 236,197 ; 202,217 236,217 ; 202,236 236,236 ; 202,256 236,256 ; 202,276 236,276 ; 202,295 236,295 ; 202,315 236,315 ; 202,335 236,335 ; 202,354 236,354 ; 202,374 236,374 ; 202,394 236,394
  lines w16: -235,-414 -203,-414 ; 203,-414 235,-414 ; 203,414 235,414
Mechanical 1:
  lines w4: -201,-439 201,-439 201,439 -171,439 -201,409 -201,-439
Mechanical 15:
  lines w4: -20,0 20,0 ; 0,-20 0,20